# EAGLE library part ADS8860 (library common)
Analog to Digital converter: - 1MSPS - 16-Bit - Single Channel - Differential Input - 2.7 - 3.6V Analog Supply - 1.65 - 3.6V Digital Supply - External Reference - 93dB SNR
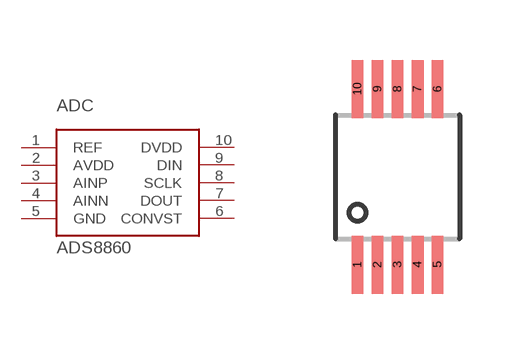
[diagram p4: symbol with the pads of S-PDSO-G10; footprint S-PDSO-G10]

Designator prefix ADC

## ADS8860IDGSR  [S-PDSO-G10]
1  REF
2  AVDD
3  AINP
4  AINN
5  GND
6  CONVST
7  DOUT
8  SCLK
9  DIN
10  DVDD

## Footprint S-PDSO-G10 (pad centres in mm)
smd 0.3 x 1.45: 1 -1,-2.2; 2 -0.5,-2.2; 3 0,-2.2; 4 0.5,-2.2; 5 1,-2.2; 6 1,2.2; 7 0.5,2.2; 8 0,2.2; 9 -0.5,2.2; 10 -1,2.2